# Altium schematic symbol library opa167.SchLib: 1 symbol
Pins are listed as number, name and electrical type; pins without a type are passive.

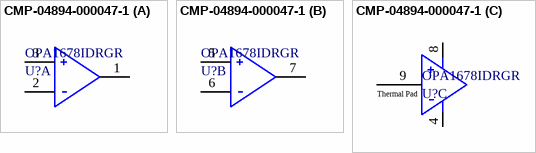
[diagram p0: symbol CMP-04894-000047-1]

## CMP-04894-000047-1
designator U?, comment OPA1678IDRGR
IC AUDIO 2 CIRCUIT 8SON; Input Bias Current: 10pA; Input Offset Voltage (Vos): 500uV; Number of Circuits: 2; Operating Supply Current: 2mA; Slew Rate: 9V/µs; Gain Bandwidth Product: 16MHz; Min Operating Temperature: -40°C; Max Operating Temperature: 85°C; RoHS Compliant: Yes; Mount: Surface Mount; Packaging: Cut Tape; Number of Channels: 2
footprint FP-DRG0008A-IPC_C
footprint FP-DRG0008A-IPC_B
footprint FP-DRG0008A-MFG
footprint FP-DRG0008A-IPC_A
part A pins: 1 OUT B, 2 -IN B (hiz), 3 +IN B (hiz)
part B pins: 5 +IN B (hiz), 6 -IN B (hiz), 7 OUT B
part C pins: 4 OUT B, 8 OUT B, 9 Thermal_Pad
part C text: Thermal Pad